# Altium footprint library PcbLib.PcbLib: 5 footprints
Each footprint in its own frame and in the unit in brackets; x right, y up, seen from the top. Pads: shape width x height; smd on the part's side, far side on the other; paste and mask are expansions set on the pad; w line width, h text height; cw(c..) or ccw(c..) is an arc to the next point about the centre after c.
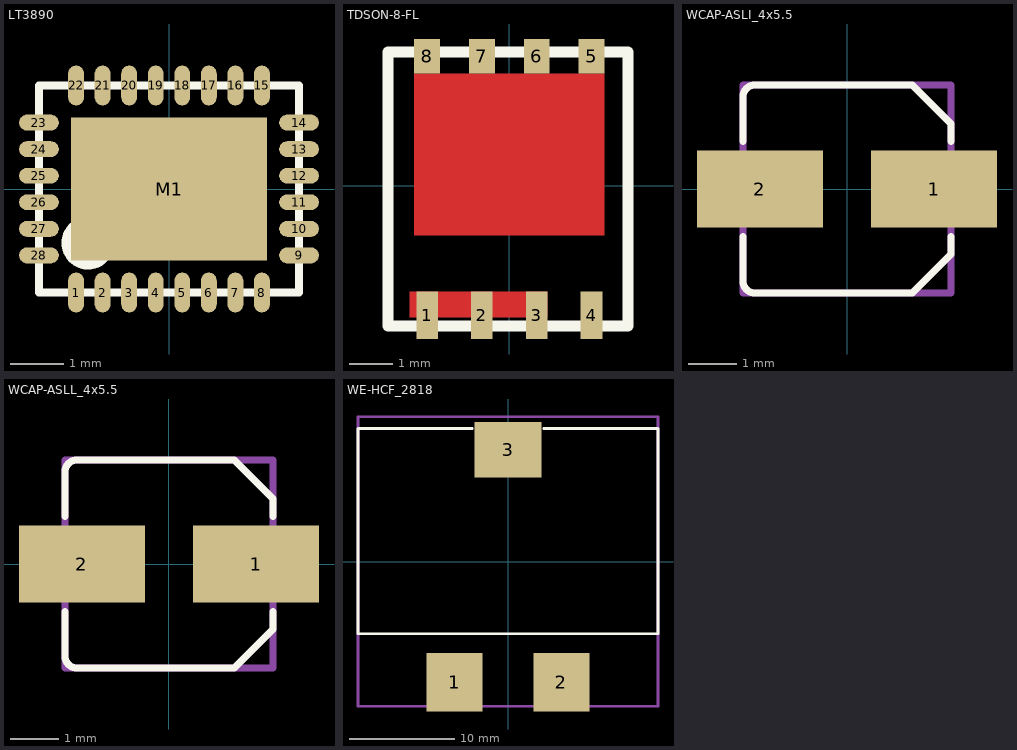
[diagram p0: the footprints below, top view; thin cyan lines are the x and y axes]

## LT3890 [mm] "QFN28 4.0X4.0 mit Kühlfläche #G#"
height 0.8
pads (29):
  oval 0.3x0.75 smd: 1(-1.75,-1.95) 2(-1.25,-1.95) 3(-0.75,-1.95) 4(-0.25,-1.95) 5(0.25,-1.95) 6(0.75,-1.95) 7(1.25,-1.95) 8(1.75,-1.95) 15(1.75,1.95) 16(1.25,1.95) 17(0.75,1.95) 18(0.25,1.95) 19(-0.25,1.95) 20(-0.75,1.95) 21(-1.25,1.95) 22(-1.75,1.95)
  oval 0.75x0.3 smd: 9(2.45,-1.25) 10(2.45,-0.75) 11(2.45,-0.25) 12(2.45,0.25) 13(2.45,0.75) 14(2.45,1.25) 23(-2.45,1.25) 24(-2.45,0.75) 25(-2.45,0.25) 26(-2.45,-0.25) 27(-2.45,-0.75) 28(-2.45,-1.25)
  rect 3.7x2.7 smd: M1(0,0)
Top Overlay:
  circle w0.5: c-1.524,-1.016 r0.25
  lines w0.15: -2.45,-1.95 2.45,-1.95 2.45,1.95 -2.45,1.95 -2.45,-1.95
3D body "User Library-28-QFN.STEP": height 0.76, standoff 0.01, extent -2.56,-2.068 2.54,2.032

## TDSON-8-FL [mm] "Super SO8"
height 1
pads (8):
  rect 0.5x1.1 smd: 1(-1.905,-3) 2(-0.635,-3) 3(0.635,-3) 4(1.905,-3)
  rect 0.6x0.8 smd: 5(1.905,3) 6(0.635,3) 7(-0.635,3) 8(-1.905,3)
Top Layer:
  rectangle: -2.315,-3.05 0.885,-2.45
  rectangle: -2.205,-1.15 2.205,2.6
Top Overlay:
  lines w0.254: -2.805,-3.25 2.745,-3.25 2.745,3.1 -2.805,3.1 -2.805,-3.25
3D body "User Library-TDSON-8 (INFIN).step": height 1.1, standoff -0.01, extent -2.805,-3.25 2.785,3.1

## WCAP-ASLI_4x5.5 [mm] "Aluminium Electrolytic V-Chip SMT Capacitors, Ф4x5.5mm"
height 5.5
pads (2):
  rect 2.6x1.6 smd: 1(1.8,0) 2(-1.8,0)
Top Overlay:
  lines w0.15: -2.15,-0.98 -2.15,-1.9 ccw(c-1.9,-1.9) -1.9,-2.15 1.35,-2.15 2.15,-1.35 2.15,-0.98 ; -2.15,0.98 -2.15,1.9 cw(c-1.9,1.9) -1.9,2.15 1.35,2.15 2.15,1.35 2.15,0.98
Mechanical 13:
  lines w0.15: -2.15,-2.15 2.15,-2.15 2.15,2.15 -2.15,2.15 -2.15,-2.15
3D body "4x5.5x1.stp": height 5.5, standoff 0, extent -2.5,-2.15 2.5,2.15

## WCAP-ASLL_4x5.5 [mm] "Aluminium Electrolytic V-Chip SMT Capacitors, Ф4x5.5mm"
height 5.5
pads (2):
  rect 2.6x1.6 smd: 1(1.8,0) 2(-1.8,0)
Top Overlay:
  lines w0.15: -2.15,-0.98 -2.15,-1.9 ccw(c-1.9,-1.9) -1.9,-2.15 1.35,-2.15 2.15,-1.35 2.15,-0.98 ; -2.15,0.98 -2.15,1.9 cw(c-1.9,1.9) -1.9,2.15 1.35,2.15 2.15,1.35 2.15,0.98
Mechanical 13:
  lines w0.15: -2.15,-2.15 2.15,-2.15 2.15,2.15 -2.15,2.15 -2.15,-2.15
3D body "4x5.5x1.stp": height 5.5, standoff 0, extent -2.5,-2.15 2.5,2.15

## WE-HCF_2818 [mm] "SMD High Current Inductor, size 2818"
height 18.5
pads (3):
  rect 5.33x5.59 smd: 1(-5.075,-11.455) 2(5.075,-11.455)
  rect 6.35x5.28 smd: 3(0,10.62)
Top Overlay:
  lines w0.254: -3.4,12.65 -14.25,12.65 -14.25,-6.85 14.25,-6.85 14.25,12.65 3.4,12.65
Mechanical 13:
  lines w0.254: -14.25,-13.75 14.25,-13.75 14.25,13.75 -14.25,13.75 -14.25,-13.75
3D body "744364xxxx.stp": height 18.55, standoff 0.03, extent -14,-13.5 14,13.5